# EAGLE library part HD61K202P-PLA1 (library aquarius)
HD61K202P-PLA1
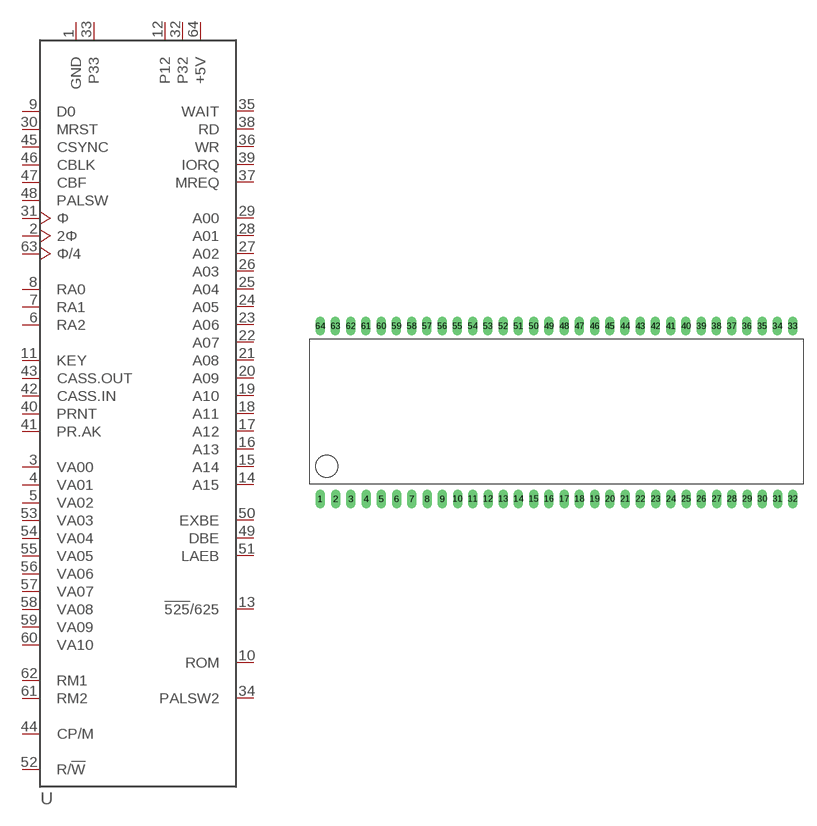
[diagram p1: symbol with the pads of HD61K202P-PLA1; footprint HD61K202P-PLA1]

Designator prefix -

## HD61K202P-PLA1  [HD61K202P-PLA1]
1  GND  pwr
2  2Φ
3  VA00
4  VA01
5  VA02
6  RA2
7  RA1
8  RA0
9  D0
10  ROM
11  KEY
12  P12
13  !525!/625
14  A15
15  A14
16  A13
17  A12
18  A11
19  A10
20  A09
21  A08
22  A07
23  A06
24  A05
25  A04
26  A03
27  A02
28  A01
29  A00
30  MRST
31  Φ
32  P32
33  P33
34  PALSW2
35  WAIT
36  WR
37  MREQ
38  RD
39  IORQ
40  PRNT
41  PR.AK
42  CASS.IN
43  CASS.OUT
44  CP/M
45  CSYNC
46  CBLK
47  CBF
48  PALSW
49  DBE
50  EXBE
51  LAEB
52  R/!W
53  VA03
54  VA04
55  VA05
56  VA06
57  VA07
58  VA08
59  VA09
60  VA10
61  RM2
62  RM1
63  Φ/4
64  +5V  pwr

## Footprint HD61K202P-PLA1 (pad centres in mm)
HD61K202P-PLA1
drill 0.6 long: 1 1.27,-1.778; 2 3.048,-1.778; 3 4.818,-1.778; 4 6.588,-1.778; 5 8.358,-1.778; 6 10.127,-1.778; 7 11.897,-1.778; 8 13.667,-1.778; 9 15.437,-1.778; 10 17.207,-1.778; 11 18.977,-1.778; 12 20.747,-1.778; 13 22.517,-1.778; 14 24.286,-1.778; 15 26.056,-1.778; 16 27.826,-1.778; 17 29.596,-1.778; 18 31.366,-1.778; 19 33.136,-1.778; 20 34.906,-1.778; 21 36.676,-1.778; 22 38.445,-1.778; 23 40.215,-1.778; 24 41.985,-1.778; 25 43.755,-1.778; 26 45.525,-1.778; 27 47.295,-1.778; 28 49.065,-1.778; 29 50.835,-1.778; 30 52.604,-1.778; 31 54.374,-1.778; 32 56.144,-1.778; 33 56.134,18.288; 34 54.356,18.288; 35 52.586,18.288; 36 50.816,18.288; 37 49.046,18.288; 38 47.277,18.288; 39 45.507,18.288; 40 43.737,18.288; 41 41.967,18.288; 42 40.197,18.288; 43 38.427,18.288; 44 36.657,18.288; 45 34.887,18.288; 46 33.118,18.288; 47 31.348,18.288; 48 29.578,18.288; 49 27.808,18.288; 50 26.038,18.288; 51 24.268,18.288; 52 22.498,18.288; 53 20.728,18.288; 54 18.959,18.288; 55 17.189,18.288; 56 15.419,18.288; 57 13.649,18.288; 58 11.879,18.288; 59 10.109,18.288; 60 8.339,18.288; 61 6.569,18.288; 62 4.8,18.288; 63 3.03,18.288; 64 1.26,18.288